# EAGLE library part CART-60-NAMES (library TinyNES_Library)
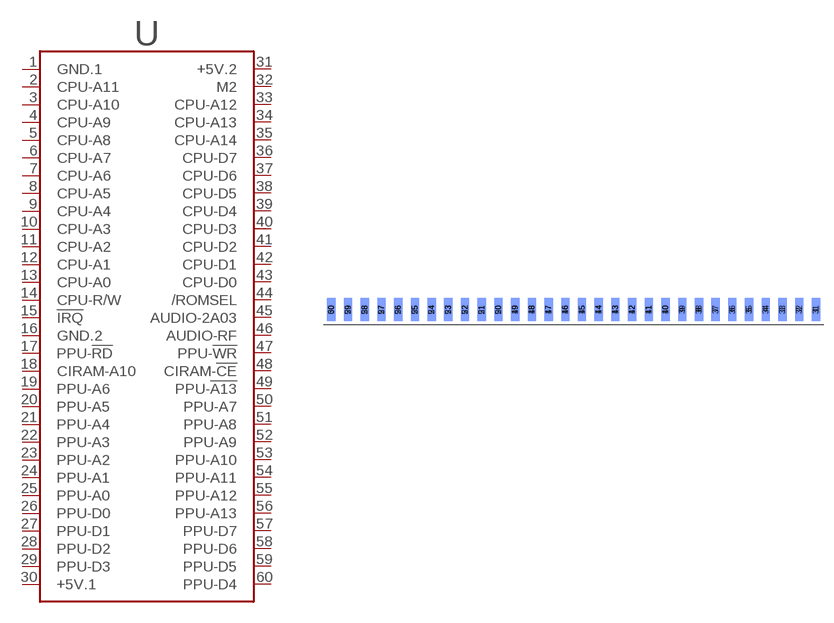
[diagram p15: symbol with the pads of CART-60-2.54-CONN-EDGE; footprint CART-60-2.54-CONN-EDGE]

Designator prefix -

## CART-60-NAMES-CONN-EDGE  [CART-60-2.54-CONN-EDGE]
1  GND.1
2  CPU-A11
3  CPU-A10
4  CPU-A9
5  CPU-A8
6  CPU-A7
7  CPU-A6
8  CPU-A5
9  CPU-A4
10  CPU-A3
11  CPU-A2
12  CPU-A1
13  CPU-A0
14  CPU-R/W
15  !IRQ
16  GND.2
17  PPU-!RD
18  CIRAM-A10
19  PPU-A6
20  PPU-A5
21  PPU-A4
22  PPU-A3
23  PPU-A2
24  PPU-A1
25  PPU-A0
26  PPU-D0
27  PPU-D1
28  PPU-D2
29  PPU-D3
30  +5V.1
31  +5V.2
32  M2
33  CPU-A12
34  CPU-A13
35  CPU-A14
36  CPU-D7
37  CPU-D6
38  CPU-D5
39  CPU-D4
40  CPU-D3
41  CPU-D2
42  CPU-D1
43  CPU-D0
44  /ROMSEL
45  AUDIO-2A03
46  AUDIO-RF
47  PPU-!WR
48  CIRAM-!CE
49  PPU-!A13
50  PPU-A7
51  PPU-A8
52  PPU-A9
53  PPU-A10
54  PPU-A11
55  PPU-A12
56  PPU-A13
57  PPU-D7
58  PPU-D6
59  PPU-D5
60  PPU-D4

## Footprint CART-60-2.54-CONN-EDGE (pad centres in mm)
smd 1.25 x 3.5: 1 36.83,2.25; 2 34.29,2.25; 3 31.75,2.25; 4 29.21,2.25; 5 26.67,2.25; 6 24.13,2.25; 7 21.59,2.25; 8 19.05,2.25; 9 16.51,2.25; 10 13.97,2.25; 11 11.43,2.25; 12 8.89,2.25; 13 6.35,2.25; 14 3.81,2.25; 15 1.27,2.25; 16 -1.27,2.25; 17 -3.81,2.25; 18 -6.35,2.25; 19 -8.89,2.25; 20 -11.43,2.25; 21 -13.97,2.25; 22 -16.51,2.25; 23 -19.05,2.25; 24 -21.59,2.25; 25 -24.13,2.25; 26 -26.67,2.25; 27 -29.21,2.25; 28 -31.75,2.25; 29 -34.29,2.25; 30 -36.83,2.25
smd 1.25 x 3.5 bottom: 31 36.83,2.25; 32 34.29,2.25; 33 31.75,2.25; 34 29.21,2.25; 35 26.67,2.25; 36 24.13,2.25; 37 21.59,2.25; 38 19.05,2.25; 39 16.51,2.25; 40 13.97,2.25; 41 11.43,2.25; 42 8.89,2.25; 43 6.35,2.25; 44 3.81,2.25; 45 1.27,2.25; 46 -1.27,2.25; 47 -3.81,2.25; 48 -6.35,2.25; 49 -8.89,2.25; 50 -11.43,2.25; 51 -13.97,2.25; 52 -16.51,2.25; 53 -19.05,2.25; 54 -21.59,2.25; 55 -24.13,2.25; 56 -26.67,2.25; 57 -29.21,2.25; 58 -31.75,2.25; 59 -34.29,2.25; 60 -36.83,2.25